# Altium schematic symbol library Regulators.SchLib: 5 symbols
Pins are listed as number, name and electrical type; pins without a type are passive.

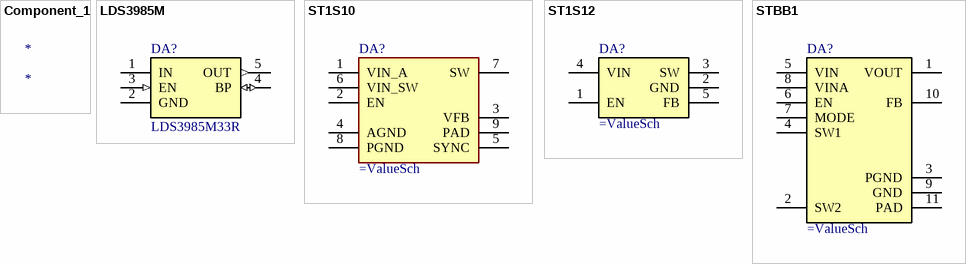
[diagram p0: symbols Component_1 to STBB1]

## Component_1
designator *

## LDS3985M
designator DA?, comment LDS3985M33R
Very low drop and low noise BiCMOS 300 mA  voltage regulator; ValueSch: LDS3985M33R
pins: 1 IN (power), 2 GND (power), 3 EN (in), 4 BP (io), 5 OUT (out)

## ST1S10
designator DA?
3 A, 900 kHz, monolithic synchronous step-down regulator IC
pins: 1 VIN_A, 2 EN, 3 VFB, 4 AGND, 5 SYNC, 6 VIN_SW, 7 SW, 8 PGND, 9 PAD

## ST1S12
designator DA?
Step-Down 0.7А, Uвх=2.5...5.5В Uвых.=0.6 - 5.0В Fраб=1,7МГц. КПД>90%.
pins: 1 EN, 2 GND, 3 SW, 4 VIN, 5 FB

## STBB1
designator DA?
pins: 1 VOUT, 2 SW2, 3 PGND, 4 SW1, 5 VIN, 6 EN, 7 MODE, 8 VINA, 9 GND, 10 FB, 11 PAD